# EAGLE library part JST_8PIN (library microbuilder)
JST 8-Pin Right-Angle Connector
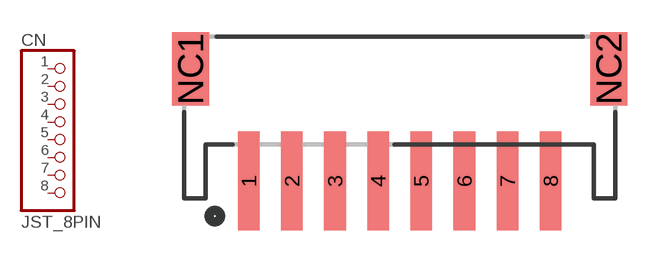
[diagram p83: symbol with the pads of JSTPH8; footprint JSTPH8]

Designator prefix CN

## JST_8PIN  [JSTPH8]
1  1  pas
2  2  pas
3  3  pas
4  4  pas
5  5  pas
6  6  pas
7  7  pas
8  8  pas

## Footprint JSTPH8 (pad centres in mm)
smd 1 x 4.6: 1 -7,-3.7; 2 -5,-3.7; 3 -3,-3.7; 4 -1,-3.7; 5 1,-3.7; 6 3,-3.7; 7 5,-3.7; 8 7,-3.7
smd 1.7 x 3.4: NC1 -9.7,1.5; NC2 9.7,1.5